# Altium schematic symbol library Altium_RJ_LAN.SchLib: 2 symbols
Pins are listed as number, name and electrical type; pins without a type are passive.

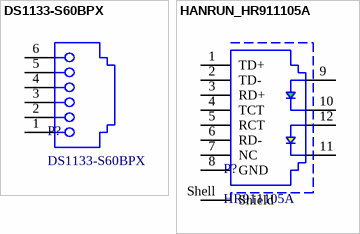
[diagram p0: symbols DS1133-S60BPX to HANRUN_HR911105A]

## DS1133-S60BPX
designator P?
RJ12 Jack 1 Through Hole Ethernet Connectors / Modular Connectors (RJ45 RJ11) ROHS; Manufacturer: CONNFLY Elec; Manufacturer Part Number: DS1133-S60BPX; Packaging: N/A; Supplier 1: Mouser; Supplier 1 Part Number: N/A; Supplier 1 URL: N/A; Supplier 2: Digi-Key; Supplier 2 Part Number: N/A; Supplier 2 URL: N/A; Supplier 3: thegioiic; Supplier 3 Part Number: N/A; Supplier 3 URL: N/A; Value: DS1133-S60BPX; ComponentLink1Description: Datasheet; ComponentLink1URL: https://www.lcsc.com/datasheet/C77859.pdf; LCSC Part #: C77859; Mount: THT; Operating Temperature Max: + 125 C; Operating Temperature Min: - 55 C; Package / Case: N/A
footprint DS1133-S60BPX
pins: 1, 2, 3, 4, 5, 6

## HANRUN_HR911105A
designator P?, comment HR911105A
Single Port RJ45 Connector with Integrated Magnetics and LED; Manufacturer: HANRUN(Zhongshan HanRun Elec); Manufacturer Part Number: HR911105A; Packaging: N/A; Supplier 1: Mouser; Supplier 1 Part Number: N/A; Supplier 1 URL: N/A; Supplier 2: Digi-Key; Supplier 2 Part Number: N/A; Supplier 2 URL: N/A; Supplier 3: thegioiic; Supplier 3 Part Number: HR911105A; Supplier 3 URL: https://www.thegioiic.com/hr911105a-cong-rj45-cai-co-led-hanrun; Value: HR911105A; ComponentLink1Description: Datasheet; ComponentLink1URL: https://www.lcsc.com/datasheet/C12074.pdf; LCSC Part #: C12074; Mount: THT; Operating Temperature Max: + 125 C; Operating Temperature Min: - 55 C; Package / Case: N/A
footprint HANRUN_HR911105A
pins: 1 TD+, 2 TD-, 3 RD+, 4 TCT, 5 RCT, 6 RD-, 7 NC, 8 GND, 9, 10, 11, 12, Shell Shield